# EAGLE library part TLV3602DGKR (library TLV3602DGKR)
Analog Comparators 2.5-ns, dual-channel high-speed rail-to-rail comparator with push-pull outputs Source: Datasheet <https://www.mouser.de/ProductDetail/Texas-Instruments/TLV3602DGKR?qs=IPgv5n7u5QZ693tOyGXgLw==>
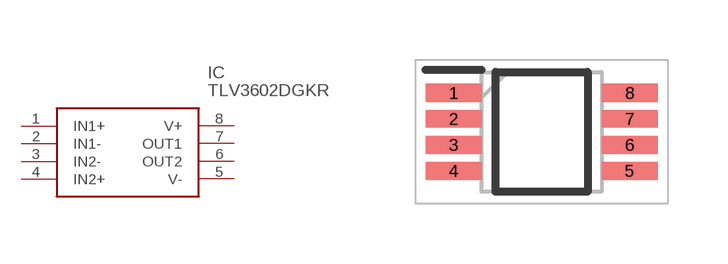
[diagram p0: symbol with the pads of SOP65P490X110-8N; footprint SOP65P490X110-8N]

Designator prefix IC

## TLV3602DGKR (Description: Analog Comparators 2.5-ns, dual-channel high-speed rail-to-rail comparator with push-pull outputs; Height: 1.1mm; Manufacturer_Name: Texas Instruments; Manufacturer_Part_Number: TLV3602DGKR; Mouser_Part_Number: 595-TLV3602DGKR; Mouser_Price-Stock: https://www.mouser.co.uk/ProductDetail/Texas-Instruments/TLV3602DGKR?qs=IPgv5n7u5QZ693tOyGXgLw%3D%3D)  [SOP65P490X110-8N]
1  IN1+
2  IN1-
3  IN2-
4  IN2+
5  V-
6  OUT2
7  OUT1
8  V+

## Footprint SOP65P490X110-8N (pad centres in mm)
DGK
smd 1.4 x 0.45: 1 -2.2,0.975; 2 -2.2,0.325; 3 -2.2,-0.325; 4 -2.2,-0.975; 5 2.2,-0.975; 6 2.2,-0.325; 7 2.2,0.325; 8 2.2,0.975